# EAGLE library part HMC1022 (library newchips)
Honeywell 2-axis magnetic sensor
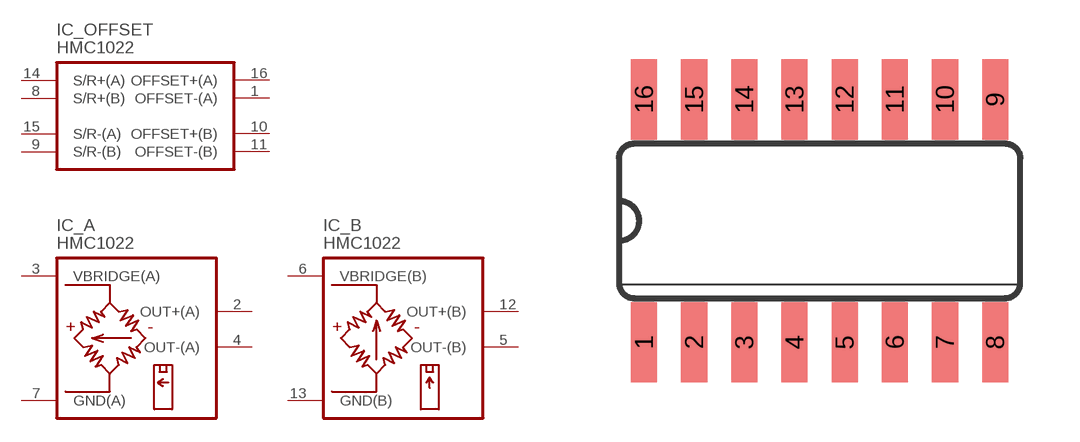
[diagram p4: symbol with the pads of SO16; footprint SO16]

Designator prefix IC; gates _A=BRIDGE_A _B=BRIDGE_B _OFFSET=BR_OFFSET

## HMC1022  [SO16]
1  _OFFSET:OFFSET-(A)  pas
2  _A:OUT+(A)  pas
3  _A:VBRIDGE(A)  pas
4  _A:OUT-(A)  pas
5  _B:OUT-(B)  pas
6  _B:VBRIDGE(B)  pas
7  _A:GND(A)  pas
8  _OFFSET:S/R+(B)  pas
9  _OFFSET:S/R-(B)  pas
10  _OFFSET:OFFSET+(B)  pas
11  _OFFSET:OFFSET-(B)  pas
12  _B:OUT+(B)  pas
13  _B:GND(B)  pas
14  _OFFSET:S/R+(A)  pas
15  _OFFSET:S/R-(A)  pas
16  _OFFSET:OFFSET+(A)  pas

## Footprint SO16 (pad centres in mm)
Small Outline package 150 mil
smd 0.66 x 2.032: 1 -4.445,-3.073; 2 -3.175,-3.073; 3 -1.905,-3.073; 4 -0.635,-3.073; 5 0.635,-3.073; 6 1.905,-3.073; 7 3.175,-3.073; 8 4.445,-3.073; 9 4.445,3.073; 10 3.175,3.073; 11 1.905,3.073; 12 0.635,3.073; 13 -0.635,3.073; 14 -1.905,3.073; 15 -3.175,3.073; 16 -4.445,3.073